# Altium footprint library SNP411-31.PcbLib: 1 footprints
Each footprint in its own frame and in the unit in brackets; x right, y up, seen from the top. Pads: shape width x height; smd on the part's side, far side on the other; paste and mask are expansions set on the pad; w line width, h text height; cw(c..) or ccw(c..) is an arc to the next point about the centre after c.
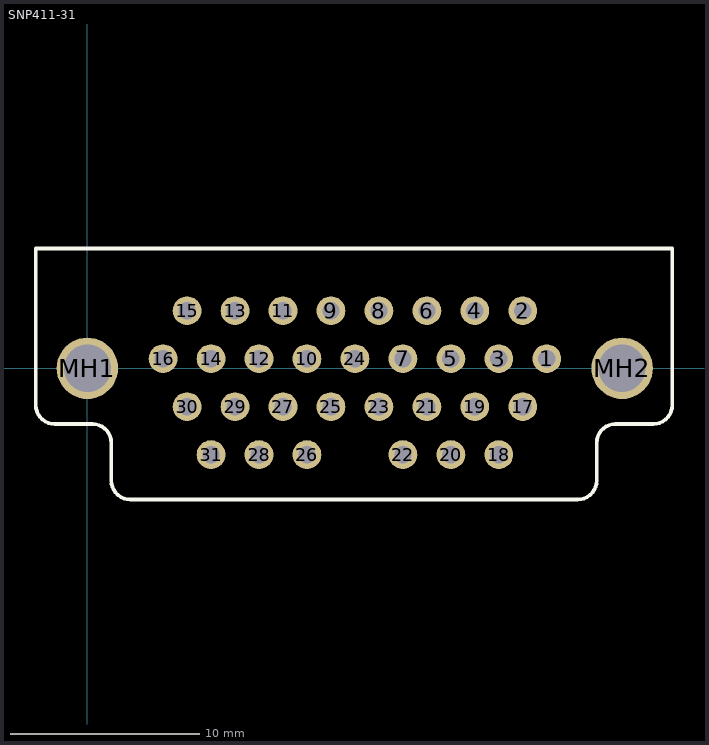
[diagram p0: the footprint, top view; thin cyan lines are the x and y axes]

## SNP411-31 [mil]
pads (33):
  round 60 hole 36: 1(957.87,20.08) 2(907.87,120.08) 3(857.87,20.08) 4(807.87,120.08) 5(757.87,20.08) 6(707.87,120.08) 7(657.87,20.08) 8(607.87,120.08) 9(507.87,120.08) 10(457.87,20.08) 11(407.87,120.08) 12(357.87,20.08) 13(307.87,120.08) 14(257.87,20.08) 15(207.87,120.08) 16(157.87,20.08) 17(907.87,-79.92) 18(857.87,-179.92) 19(807.87,-79.92) 20(757.87,-179.92) 21(707.87,-79.92) 22(657.87,-179.92) 23(607.87,-79.92) 24(557.87,20.08) 25(507.87,-79.92) 26(457.87,-179.92) 27(407.87,-79.92) 28(357.87,-179.92) 29(307.87,-79.92) 30(207.87,-79.92) 31(257.87,-179.92)
  round 128 hole 98.43: MH1(0,0) MH2(1114.96,0)
Top Overlay:
  circle w7.87: c1114.96,0 r51.18
  circle w7.87: c-3.15,0 r51.18
  lines w7.87: -107.48,-76.77 ccw(c-68.11,-76.77) -68.11,-116.14 10.63,-116.14 cw(c10.63,-155.51) 50,-155.51 50,-234.25 ccw(c89.37,-234.25) 89.37,-273.62 1022.44,-273.62 ccw(c1022.44,-234.25) 1061.81,-234.25 1061.81,-155.51 cw(c1101.18,-155.51) 1101.18,-116.14 1179.92,-116.14 ccw(c1179.92,-76.77) 1219.29,-76.77 1219.29,250 -107.48,250 -107.48,-76.77
3D body "SNP411-31RP31.stp": height 311.02, standoff -114.37, extent -105.51,-275.58 1221.26,440.95